# Altium schematic symbol library EMK107B7104KA-T.SchLib: 1 symbol
Pins are listed as number, name and electrical type; pins without a type are passive.

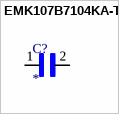
[diagram p0: symbol EMK107B7104KA-T]

## EMK107B7104KA-T
designator C?
Ceramic Multilayer Capacitor; Capacitor Type:General Purpose; Capacitance:0.1ÂµF; Capacitance Tolerance:Â± 10%; Voltage Rating:16VDC; Capacitor Dielectric Type:Multilayer Ceramic; Package/Case:0603; Termination Type:SMD ;RoHS Compliant: Yes; MP: EMK107B7104KA-T; MF: {'manufacturer': u'Taiyo Yuden'}; Price: None; Availability: Unavailable; Value: *; Package: None
footprint CAPC1608X90N
pins: 1, 2